# Altium schematic symbol library SS36.SchLib: 1 symbol
Pins are listed as number, name and electrical type; pins without a type are passive.

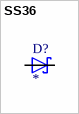
[diagram p0: symbol SS36]

## SS36
designator D?
3A 60V Schottky diode; MF: {'manufacturer': u'ON Semiconductor'}; MP: SS36; Price: None; Availability: Unavailable; Package: None; Value: *
footprint SMA
pins: A, C